# EAGLE library part SAMD_21 (library rac)
samd21
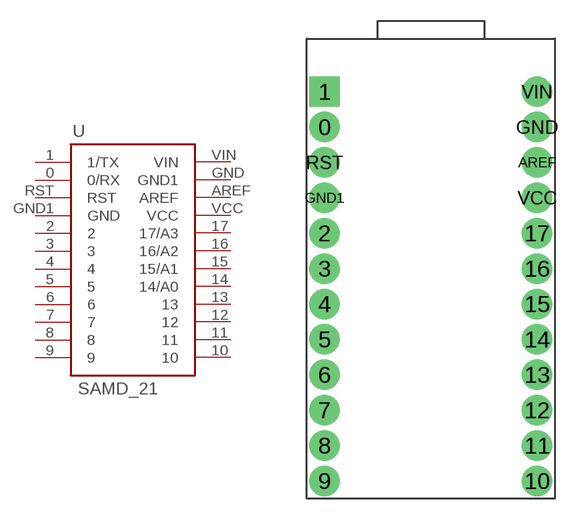
[diagram p0: symbol with the pads of MINI; footprint MINI]

Designator prefix -

## SAMD_21'A'  [MINI]
0  0/RX
1  1/TX
2  2
3  3
4  4
5  5
6  6
7  7
8  8
9  9
10  10
11  11
12  12
13  13
14  14/A0
15  15/A1
16  16/A2
17  17/A3
AREF  AREF
GND  GND1
GND1  GND
RST  RST
VCC  VCC
VIN  VIN

## Footprint MINI (pad centres in mm)
drill 1.2 pad 2.184: 0 -7.62,10.16; 2 -7.62,2.54; 3 -7.62,0; 4 -7.62,-2.54; 5 -7.62,-5.08; 6 -7.62,-7.62; 7 -7.62,-10.16; 8 -7.62,-12.7; 9 -7.62,-15.24; 10 7.62,-15.24; 11 7.62,-12.7; 12 7.62,-10.16; 13 7.62,-7.62; 14 7.62,-5.08; 15 7.62,-2.54; 16 7.62,0; 17 7.62,2.54; AREF 7.62,7.62; GND 7.62,10.16; GND1 -7.62,5.08; RST -7.62,7.62; VCC 7.62,5.08; VIN 7.62,12.7
drill 1.2 pad 2.184 square: 1 -7.62,12.7